# Altium footprint library PCB_supply unit.PcbLib: 19 footprints (part 1 of 2)
Each footprint in its own frame and in the unit in brackets; x right, y up, seen from the top. Pads: shape width x height; smd on the part's side, far side on the other; paste and mask are expansions set on the pad; w line width, h text height; cw(c..) or ccw(c..) is an arc to the next point about the centre after c.
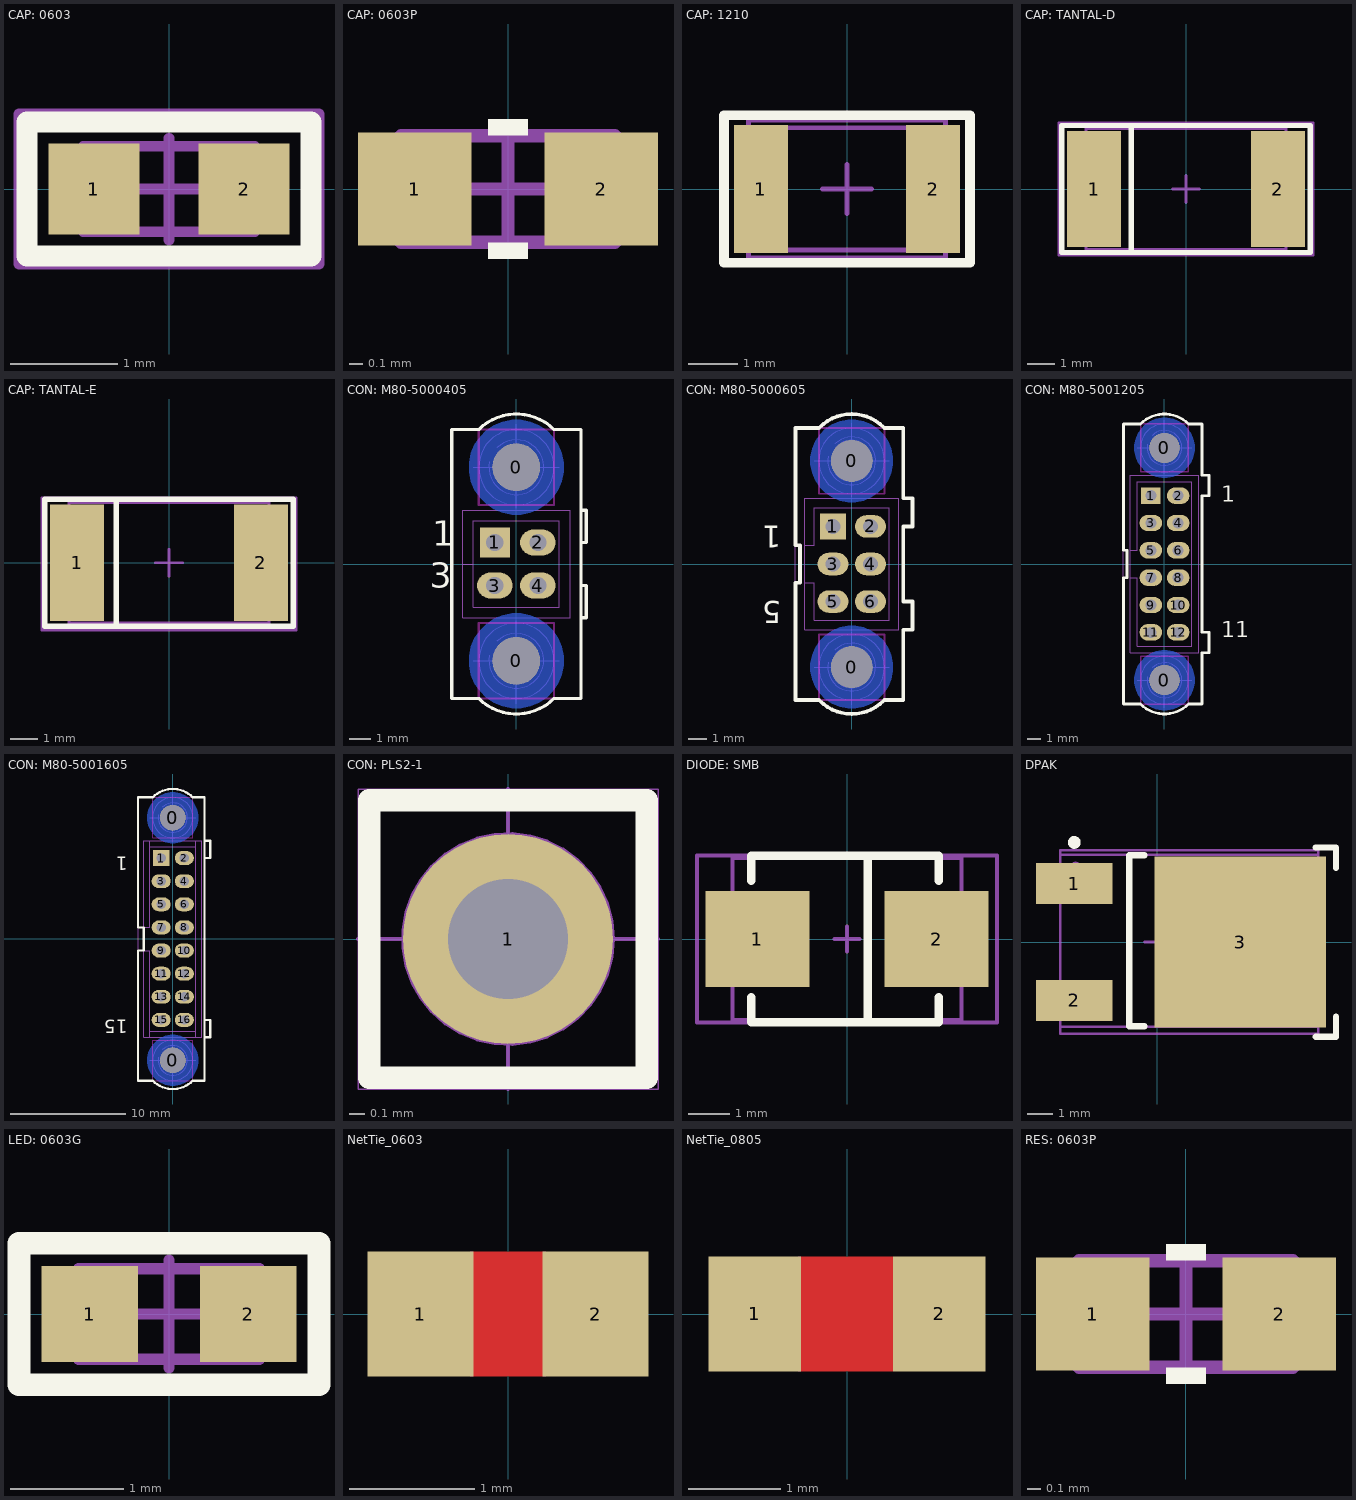
[diagram p0: the footprints below, top view; thin cyan lines are the x and y axes]

## CAP: 0603 [mm]
height 0.45
pads (2):
  rect 0.85x0.85 smd: 1(-0.7,0) 2(0.7,0)
Top Overlay:
  lines w0.2: -1.325,-0.625 1.325,-0.625 1.325,0.625 -1.325,0.625 -1.325,-0.625
Mechanical 1:
  lines w0.1: -0.8,-0.4 0.8,-0.4 0.8,0.4 -0.8,0.4 -0.8,-0.4
Mechanical 15:
  lines w0.1: -0.475,0 0.475,0 ; 0,-0.475 0,0.475 ; -1.4,-0.7 -1.4,0.7 1.4,0.7 1.4,-0.7 -1.4,-0.7
3D body "SW3dPS-0603 SMD Capacitor.STEP": height 0.3, standoff 0, extent -0.8,-0.4 0.8,0.4

## CAP: 0603P [mm] "small var"
height 0.45
pads (2):
  rect 0.85x0.85 smd: 1(-0.7,0) 2(0.7,0)
Top Overlay:
  rectangle: -0.15,0.4 0.15,0.525
  rectangle: -0.15,-0.525 0.15,-0.4
Mechanical 1:
  lines w0.1: -0.8,-0.4 -0.8,0.4 0.8,0.4 0.8,-0.4 -0.8,-0.4
Mechanical 15:
  lines w0.1: -0.475,0 0.475,0 ; 0,-0.475 0,0.475
3D body "SW3dPS-0603 SMD Capacitor.STEP": height 0.3, standoff 0, extent -0.8,-0.4 0.8,0.4

## CAP: 1210 [mm]
height 2.5
pads (2):
  rect 1.1x2.6 smd: 1(-1.75,0) 2(1.75,0)
Top Overlay:
  lines w0.2: -2.5,-1.5 2.5,-1.5 2.5,1.5 -2.5,1.5 -2.5,-1.5
Mechanical 1:
  lines w0.1: -2,-1.244 -2,1.245 2,1.245 2,-1.244 -2,-1.244
Mechanical 15:
  lines w0.1: -0.5,0 0.5,0 ; 0,-0.5 0,0.5 ; -2,-1.4 2,-1.4 2,1.4 -2,1.4 -2,-1.4
3D body "User Library-1210(3225M) Cap.STEP": height 1.7, standoff 0, extent -2,-1.244 2,1.245

## CAP: TANTAL-D [mm]
height 2.9
pads (2):
  rect 2x4.3 smd: 1(-3.4,0) 2(3.4,0)
Top Overlay:
  lines w0.2: -2.025,-2.35 -2.025,2.35 ; -4.6,-2.35 -4.6,2.35 4.6,2.35 4.6,-2.35 -4.6,-2.35
Mechanical 1:
  lines w0.1: -2.025,-2.225 -2.025,2.225 ; -3.7,-2.225 3.7,-2.225 3.7,2.225 -3.7,2.225 -3.7,-2.225
Mechanical 15:
  lines w0.1: -0.5,0 0.5,0 ; 0,-0.5 0,0.5 ; -4.7,-2.45 4.7,-2.45 4.7,2.45 -4.7,2.45 -4.7,-2.45
3D body "User Library-AVX_D_CASE.STEP": height 3.01, standoff 0, extent -3.7,-2.225 3.7,2.225

## CAP: TANTAL-E [mm]
height 2.9
pads (2):
  rect 2x4.3 smd: 1(-3.4,0) 2(3.4,0)
Top Overlay:
  lines w0.2: -1.95,-2.325 -1.95,2.325 ; -4.6,-2.35 4.6,-2.35 4.6,2.35 -4.6,2.35 -4.6,-2.35
Mechanical 1:
  lines w0.1: -1.95,-2.225 -1.95,2.225 ; -3.7,-2.225 3.7,-2.225 3.7,2.225 -3.7,2.225 -3.7,-2.225
Mechanical 15:
  lines w0.1: -0.5,0 0.5,0 ; 0,-0.5 0,0.5 ; -4.7,-2.5 -4.7,2.4 4.7,2.4 4.7,-2.5 -4.7,-2.5
3D body "User Library-AVX_E_CASE.STEP": height 4.2, standoff 0, extent -3.7,-2.225 3.7,2.225

## CON: M80-5000405 [mm] "4 pin; Harwin без винтов"
height 5.5
pads (6):
  round 2.2 hole 2.2 unplated: 0(0,-4.5) 0(0,4.5)
  rect 1.4x1.4 hole 0.8: 1(-1,1)
  oval 1.65x1.2 hole 0.8: 2(1,1) 3(-1,-1) 4(1,-1)
Top Layer keep-out:
  lines w0.1: -1.75,-6.25 -1.75,-2.75 1.75,-2.75 1.75,-6.25 -1.75,-6.25 ; -1.75,2.75 1.75,2.75 1.75,6.25 -1.75,6.25 -1.75,2.75
Bottom Layer:
  pour cut-out: 2.2,4.5 2.2,4.717 2.115,5.142 1.95,5.542 1.709,5.902 1.402,6.209 1.042,6.45 0.642,6.615 0.217,6.7 -0.217,6.7 -0.642,6.615 -1.042,6.45 -1.402,6.209 -1.709,5.902 -1.95,5.542 -2.115,5.142 -2.2,4.717 -2.2,4.5 -2.2,4.283 -2.115,3.858 -1.95,3.458 -1.709,3.098 -1.402,2.791 -1.042,2.55 -0.642,2.385 -0.217,2.3 0.217,2.3 0.642,2.385 1.042,2.55 1.402,2.791 1.709,3.098 1.95,3.458 2.115,3.858 2.2,4.283
  pour cut-out: 2.2,-4.5 2.2,-4.283 2.115,-3.858 1.95,-3.458 1.709,-3.098 1.402,-2.791 1.042,-2.55 0.642,-2.385 0.217,-2.3 -0.217,-2.3 -0.642,-2.385 -1.042,-2.55 -1.402,-2.791 -1.709,-3.098 -1.95,-3.458 -2.115,-3.858 -2.2,-4.283 -2.2,-4.5 -2.2,-4.717 -2.115,-5.142 -1.95,-5.542 -1.709,-5.902 -1.402,-6.209 -1.042,-6.45 -0.642,-6.615 -0.217,-6.7 0.217,-6.7 0.642,-6.615 1.042,-6.45 1.402,-6.209 1.709,-5.902 1.95,-5.542 2.115,-5.142 2.2,-4.717
Top Overlay:
  lines w0.15: 3,-5 3,3 ; 3,-1 3.25,-1 3.25,-2.5 3,-2.5 3,-6.25 1.75,-6.25 cw(c0,-4.5) -1.75,-6.25 -3,-6.25 -3,6.25 -1.75,6.25 cw(c0,4.5) 1.75,6.25 3,6.25 3,2.5 3.25,2.5 3.25,1 3,1
  text "1" at -3.9,0.45 h2
  text "3" at -4.027,-1.5 h2
Mechanical 1:
  circle w0.05: c-1,1 r0.25
  circle w0.05: c1,1 r0.25
  circle w0.05: c1,1 r0.25
  circle w0.05: c1,-1 r0.25
  circle w0.05: c1,-1 r0.25
  circle w0.05: c1,-1 r0.25
  circle w0.05: c-1,-1 r0.25
  circle w0.05: c-1,-1 r0.25
  circle w0.05: c-1,-1 r0.25
  circle w0.05: c-1,1 r0.25
  circle w0.05: c0,4.5 r1
  circle w0.05: c0,4.5 r1.75
  circle w0.05: c0,-4.5 r1
  circle w0.05: c0,-4.5 r1.75
  lines w0.05: -3,-3 -3,6.25 -1.75,6.25 cw(c0,4.5) 1.75,6.25 3,6.25 3,2.5 3.25,2.5 3.25,1 3,1 ; -3,-1 -3,-6.25 -1.75,-6.25 ccw(c0,-4.5) 1.75,-6.25 3,-6.25 3,-2.5 3.25,-2.5 ; -2,-4.5 2,-4.5 ; -2,4.5 2,4.5 ; -1.5,-4.5 1.5,-4.5 ; -1.25,-4.248 ccw(c0,-4.5) -0.901,-3.599 ; -1.25,4.752 ccw(c0,4.5) -0.901,5.401 ; 0,-6.5 0,-2.65 ; 0,2.6 0,6.5 ; 2,-1 2,-2 ; 2.5,-1 2.5,-2.5 ; 3,3 3,-3 3,-1 3.25,-1 ; -2.5,0 -2.5,-2.5 0,-2.5 2.5,-2.5 ; -2.5,0 -2.5,-2 -2.5,2.5 2.5,2.5 2.5,-2.5 ; -2.5,0 -2,0 ; -2.5,0 -2,0 ; -2,-2 -2,2 2,2 2,-2 ; -2,-2 -2,0 ; -2,-2 2,-2 ; -2,-2 -2,0 ; 3.25,-2.5 3.25,-1 ; 3.25,-2.5 3.25,-1
3D body "m80-5000405_asm.stp": height 5.6, standoff -3.25, extent -2.775,-7 3.275,7

## CON: M80-5000605 [mm] "HR500"
height 5.6
pads (8):
  round 2.2 hole 2.2 unplated mask+0.1: 0(0,-5.5) 0(0,5.5)
  rect 1.4x1.4 hole 0.8: 1(-1,2)
  oval 1.65x1.2 hole 0.8: 2(1,2) 3(-1,0) 4(1,0) 5(-1,-2) 6(1,-2)
Top Layer keep-out:
  lines w0.1: -1.75,-7.25 1.75,-7.25 1.75,-3.75 -1.75,-3.75 -1.75,-7.25 ; -1.75,3.75 1.75,3.75 1.75,7.25 -1.75,7.25 -1.75,3.75
Bottom Layer:
  pour cut-out: 2.2,5.5 2.2,5.717 2.115,6.142 1.95,6.542 1.709,6.902 1.402,7.209 1.042,7.45 0.642,7.615 0.217,7.7 -0.217,7.7 -0.642,7.615 -1.042,7.45 -1.402,7.209 -1.709,6.902 -1.95,6.542 -2.115,6.142 -2.2,5.717 -2.2,5.5 -2.2,5.283 -2.115,4.858 -1.95,4.458 -1.709,4.098 -1.402,3.791 -1.042,3.55 -0.642,3.385 -0.217,3.3 0.217,3.3 0.642,3.385 1.042,3.55 1.402,3.791 1.709,4.098 1.95,4.458 2.115,4.858 2.2,5.283
  pour cut-out: 2.2,-5.5 2.2,-5.283 2.115,-4.858 1.95,-4.458 1.709,-4.098 1.402,-3.791 1.042,-3.55 0.642,-3.385 0.217,-3.3 -0.217,-3.3 -0.642,-3.385 -1.042,-3.55 -1.402,-3.791 -1.709,-4.098 -1.95,-4.458 -2.115,-4.858 -2.2,-5.283 -2.2,-5.5 -2.2,-5.717 -2.115,-6.142 -1.95,-6.542 -1.709,-6.902 -1.402,-7.209 -1.042,-7.45 -0.642,-7.615 -0.217,-7.7 0.217,-7.7 0.642,-7.615 1.042,-7.45 1.402,-7.209 1.709,-6.902 1.95,-6.542 2.115,-6.142 2.2,-5.717
Top Overlay:
  lines w0.2: -3,-7.25 -1.75,-7.25 -1.707,-7.293 ccw(c0,-5.586) 0,-8 ccw(c0,-5.586) 1.707,-7.293 1.75,-7.25 2.75,-7.25 2.75,-3.5 3.25,-3.5 3.25,-2 2.75,-2 2.75,2 3.25,2 3.25,3.5 2.75,3.5 2.75,7.25 1.75,7.25 1.707,7.293 ccw(c0,5.586) 0,8 ccw(c0,5.586) -1.707,7.293 -1.75,7.25 -3,7.25 -3,1 -2.75,1 -2.75,-1 -3,-1 -3,-7.25
  text "1" at -3.75,2.433 h2
  text "5" at -3.75,-1.6 h2
Mechanical 1:
  circle w0.05: c0,5.5 r1.75
  circle w0.05: c0,-5.5 r1.75
  circle w0.05: c0,5.5 r1.1
  circle w0.05: c0,-5.5 r1.1
  circle w0.05: c-1,0 r0.25
  circle w0.05: c-1,-2 r0.25
  circle w0.05: c1,-2 r0.25
  circle w0.05: c1,0 r0.25
  circle w0.05: c1,2 r0.25
  circle w0.05: c-1,2 r0.25
  lines w0.05: -2.5,-1 -2,-1 -2,-3 2,-3 2,3 -2,3 -2,1 -2.5,1 ; -2,-5.5 2,-5.5 ; -2,5.5 2,5.5 ; -1.25,-5.248 ccw(c0,-5.5) -0.901,-4.599 ; -1.25,5.752 ccw(c0,5.5) -0.901,6.401 ; 0,-7.5 0,-3.65 ; 0,3.6 0,7.5 ; -3,-7.25 -3,7.25 -1.75,7.25 cw(c0,5.5) 1.75,7.25 2.75,7.25 2.75,3.5 3.25,3.5 3.25,2 2.75,2 2.75,-2 3.25,-2 3.25,-3.5 2.75,-3.5 2.75,-7.25 1.75,-7.25 cw(c0,-5.5) -1.75,-7.25 -3,-7.25 ; -2.5,-3.5 2.5,-3.5 2.5,3.5 -2.5,3.5 -2.5,-3.5
3D body "Вилка M80-5000642.stp": height 5.6, standoff -3.25, extent -2.775,-8 3.275,8

## CON: M80-5001205 [mm] "без винтов"
height 5.6
pads (14):
  round 2.2 hole 2.2 unplated mask+0.1: 0(0,-8.5) 0(0,8.5)
  rect 1.4x1.2 hole 0.8: 1(-1,5)
  oval 1.65x1.2 hole 0.8: 2(1,5) 3(-1,3) 4(1,3) 5(-1,1) 6(1,1) 7(-1,-1) 8(1,-1) 9(-1,-3) 10(1,-3) 11(-1,-5) 12(1,-5)
Top Layer keep-out:
  lines w0.1: -1.75,-10.25 -1.75,-6.75 1.75,-6.75 1.75,-10.25 -1.75,-10.25 ; -1.75,6.75 -1.75,10.25 1.75,10.25 1.75,6.75 -1.75,6.75
Bottom Layer:
  pour cut-out: 2.2,-8.5 2.2,-8.283 2.115,-7.858 1.95,-7.458 1.709,-7.098 1.402,-6.791 1.042,-6.55 0.642,-6.385 0.217,-6.3 -0.217,-6.3 -0.642,-6.385 -1.042,-6.55 -1.402,-6.791 -1.709,-7.098 -1.95,-7.458 -2.115,-7.858 -2.2,-8.283 -2.2,-8.5 -2.2,-8.717 -2.115,-9.142 -1.95,-9.542 -1.709,-9.902 -1.402,-10.209 -1.042,-10.45 -0.642,-10.615 -0.217,-10.7 0.217,-10.7 0.642,-10.615 1.042,-10.45 1.402,-10.209 1.709,-9.902 1.95,-9.542 2.115,-9.142 2.2,-8.717
  pour cut-out: 2.2,8.5 2.2,8.717 2.115,9.142 1.95,9.542 1.709,9.902 1.402,10.209 1.042,10.45 0.642,10.615 0.217,10.7 -0.217,10.7 -0.642,10.615 -1.042,10.45 -1.402,10.209 -1.709,9.902 -1.95,9.542 -2.115,9.142 -2.2,8.717 -2.2,8.5 -2.2,8.283 -2.115,7.858 -1.95,7.458 -1.709,7.098 -1.402,6.791 -1.042,6.55 -0.642,6.385 -0.217,6.3 0.217,6.3 0.642,6.385 1.042,6.55 1.402,6.791 1.709,7.098 1.95,7.458 2.115,7.858 2.2,8.283
Top Overlay:
  lines w0.2: 2.75,10.25 1.75,10.25 ccw(c0,8.5) -1.75,10.25 -3,10.25 -3,1 -2.75,1 -2.75,-1 -3,-1 -3,-10.25 -1.75,-10.25 ccw(c0,-8.5) 1.75,-10.25 2.75,-10.25 2.75,-6.5 3.25,-6.5 3.25,-5 2.75,-5 2.75,5 3.25,5 3.25,6.5 2.75,6.5 2.75,10.25 ; 2.75,10.25 2.75,10.25
  text "1" at 4.15,4.15 h2
  text "11" at 4.15,-5.75 h2
Mechanical 1:
  circle w0.05: c0,8.5 r1.75
  circle w0.05: c0,-8.5 r1.75
  circle w0.05: c0,8.5 r1
  circle w0.05: c0,-8.5 r1
  circle w0.05: c-1,3 r0.25
  circle w0.05: c-1,1 r0.25
  circle w0.05: c-1,-1 r0.25
  circle w0.05: c-1,-3 r0.25
  circle w0.05: c-1,-5 r0.25
  circle w0.05: c1,-5 r0.25
  circle w0.05: c1,-3 r0.25
  circle w0.05: c1,-1 r0.25
  circle w0.05: c1,1 r0.25
  circle w0.05: c1,3 r0.25
  circle w0.05: c1,5 r0.25
  circle w0.05: c-1,5 r0.25
  lines w0.05: -2.5,-1 -2,-1 -2,-6 2,-6 2,6 -2,6 -2,1 -2.5,1 ; -2,-8.5 2,-8.5 ; -2,8.5 2,8.5 ; -1.25,-8.248 ccw(c0,-8.5) -0.901,-7.599 ; -1.25,8.752 ccw(c0,8.5) -0.901,9.401 ; 0,-10.5 0,-6.65 ; 0,6.6 0,10.5 ; -3,-10.25 -3,10.25 -1.75,10.25 cw(c0,8.5) 1.75,10.25 2.75,10.25 2.75,6.5 3.25,6.5 3.25,5 2.75,5 2.75,-5 3.25,-5 3.25,-6.5 2.75,-6.5 2.75,-10.25 1.75,-10.25 cw(c0,-8.5) -1.75,-10.25 -3,-10.25 ; -2.5,-6.5 2.5,-6.5 2.5,6.5 -2.5,6.5 -2.5,-6.5
3D body "Вилка M80-5001242.stp": height 5.6, standoff -3.25, extent -2.775,-11 3.275,11

## CON: M80-5001605 [mm] "16pin Harwin"
height 5.6
pads (18):
  round 2.2 hole 2.2 unplated mask+0.1: 0(0,-10.5) 0(0,10.5)
  rect 1.4x1.4 hole 0.8: 1(-1,7)
  oval 1.65x1.2 hole 0.8: 2(1,7) 3(-1,5) 4(1,5) 5(-1,3) 6(1,3) 7(-1,1) 8(1,1) 9(-1,-1) 10(1,-1) 11(-1,-3) 12(1,-3) 13(-1,-5) 14(1,-5) 15(-1,-7) 16(1,-7)
Top Layer keep-out:
  lines w0.1: -1.75,-12.25 -1.75,-8.75 1.75,-8.75 1.75,-12.25 -1.75,-12.25 ; -1.75,8.75 -1.75,12.25 1.75,12.25 1.75,8.75 -1.75,8.75
Bottom Layer:
  pour cut-out: 2.2,10.5 2.2,10.717 2.115,11.142 1.95,11.542 1.709,11.902 1.402,12.209 1.042,12.45 0.642,12.615 0.217,12.7 -0.217,12.7 -0.642,12.615 -1.042,12.45 -1.402,12.209 -1.709,11.902 -1.95,11.542 -2.115,11.142 -2.2,10.717 -2.2,10.5 -2.2,10.283 -2.115,9.858 -1.95,9.458 -1.709,9.098 -1.402,8.791 -1.042,8.55 -0.642,8.385 -0.217,8.3 0.217,8.3 0.642,8.385 1.042,8.55 1.402,8.791 1.709,9.098 1.95,9.458 2.115,9.858 2.2,10.283
  pour cut-out: 2.2,-10.5 2.2,-10.283 2.115,-9.858 1.95,-9.458 1.709,-9.098 1.402,-8.791 1.042,-8.55 0.642,-8.385 0.217,-8.3 -0.217,-8.3 -0.642,-8.385 -1.042,-8.55 -1.402,-8.791 -1.709,-9.098 -1.95,-9.458 -2.115,-9.858 -2.2,-10.283 -2.2,-10.5 -2.2,-10.717 -2.115,-11.142 -1.95,-11.542 -1.709,-11.902 -1.402,-12.209 -1.042,-12.45 -0.642,-12.615 -0.217,-12.7 0.217,-12.7 0.642,-12.615 1.042,-12.45 1.402,-12.209 1.709,-11.902 1.95,-11.542 2.115,-11.142 2.2,-10.717
Top Overlay:
  lines w0.2: 2.75,-9 2.75,9 ; 2.75,-7 3.25,-7 3.25,-8.5 2.75,-8.5 2.75,-12.25 1.75,-12.25 cw(c0,-10.5) -1.75,-12.25 -3,-12.25 -3,-1 -2.5,-1 -2.5,1 -3,1 -3,12.25 -1.75,12.25 cw(c0,10.5) 1.75,12.25 2.75,12.25 2.75,8.5 3.25,8.5 3.25,7 2.75,7
  text "15" at -3.9,-6.6 h2
  text "1" at -3.9,7.5 h2
Mechanical 1:
  circle w0.05: c1,7 r0.25
  circle w0.05: c1,5 r0.25
  circle w0.05: c1,3 r0.25
  circle w0.05: c1,1 r0.25
  circle w0.05: c1,-1 r0.25
  circle w0.05: c1,-3 r0.25
  circle w0.05: c1,-5 r0.25
  circle w0.05: c-1,-3 r0.25
  circle w0.05: c-1,-1 r0.25
  circle w0.05: c-1,1 r0.25
  circle w0.05: c-1,3 r0.25
  circle w0.05: c-1,5 r0.25
  circle w0.05: c-1,7 r0.25
  circle w0.05: c-1,-7 r0.25
  circle w0.05: c1,-7 r0.25
  circle w0.05: c0,-10.5 r1
  circle w0.05: c0,10.5 r1
  circle w0.05: c0,-10.5 r1.75
  circle w0.05: c0,10.5 r1.75
  circle w0.05: c-1,-5 r0.25
  lines w0.05: -2.5,-1 -2,-1 -2,-8.5 ; -2.5,1 -2,1 -2,8.5 ; -2,-10.5 2,-10.5 ; -2,-8 2,-8 ; -2,8 2,8 ; -2,10.5 2,10.5 ; -1.5,-10.5 1.5,-10.5 ; -1.25,-10.248 ccw(c0,-10.5) -0.901,-9.599 ; -1.25,10.752 ccw(c0,10.5) -0.901,11.401 ; 0,-12.5 0,-8.65 ; 0,8.6 0,12.5 ; 2,-8.5 2,8.5 ; 2.75,-9 2.75,9 ; 2.75,-7 3.25,-7 3.25,-8.5 2.75,-8.5 2.75,-12.25 1.75,-12.25 cw(c0,-10.5) -1.75,-12.25 -3,-12.25 -3,12.25 -1.75,12.25 cw(c0,10.5) 1.75,12.25 2.75,12.25 2.75,8.5 3.25,8.5 3.25,7 2.75,7 ; -2.5,-8.5 -2.5,8.5 2.5,8.5 2.5,-8.5 -2.5,-8.5
3D body "m80-5001605_asm.stp": height 5.6, standoff -3.25, extent -2.775,-13 3.275,13

## CON: PLS2-1 [mm] "1 Position,pitch 2mm"
height 7.5
pads (1):
  round 1.4 hole 0.8: 1(0,0)
Top Overlay:
  lines w0.15: -0.925,-0.925 -0.925,0.925 0.925,0.925 0.925,-0.925 -0.925,-0.925
Mechanical 1:
  circle w0.025: c0,0 r0.7
  lines w0.01: -1,-1 -1,1 1,1 1,-1 -1,-1
  lines w0.025: -1,0 1,0 ; 0,-1 0,1
3D body "PinHeader_1x01_P2.00mm_Vertical.step": height 6, standoff -2.8, extent -1,-1 1,1

## DIODE: SMB [mm]
height 2
pads (2):
  rect 2.5x2.3 smd: 1(-2.15,0) 2(2.15,0)
Top Overlay:
  lines w0.2: -2.3,-1.4 -2.3,-2 2.2,-2 2.2,-1.4 ; -2.3,1.4 -2.3,2 2.2,2 2.2,1.4 ; 0.5,-2 0.5,2
Mechanical 1:
  lines w0.1: 0.5,-1.95 0.5,1.95 ; -2.75,-1.95 2.75,-1.95 2.75,1.95 -2.75,1.95 -2.75,-1.95
Mechanical 15:
  lines w0.1: -0.3,0 0.3,0 ; 0,-0.3 0,0.3 ; -3.6,-2 -3.6,2 3.6,2 3.6,-2 -3.6,-2
3D body "User Library-DIOM5539X24.STEP": height 2.45, standoff 0.03, extent -2.75,-1.95 2.75,1.95

## DPAK [mm]
height 2.4
pads (4):
  rect 3x1.6 smd: 1(-3.25,2.29) 2(-3.25,-2.29)
  rect 6.7x6.7 smd: 3(3.25,0)
  round 0.5 on Mech1: ""(-3.2,2.9)
Top Overlay:
  circle w0.25: c-3.25,3.9 r0.125
  lines w0.25: -0.5,-3.3 -1.1,-3.3 -1.1,3.4 -0.5,3.4 ; 6.2,-3.717 7,-3.717 7,-2.917 ; 6.2,3.7 7,3.7 7,2.9
Mechanical 1:
  lines w0.1: -3.798,-3.317 6.302,-3.317 6.302,3.417 ; -3.798,-3.317 -3.798,-3.317 ; -3.798,-3.317 -3.798,3.417 6.302,3.417 ; 6.302,3.417 6.302,3.417
Mechanical 15:
  lines w0.1: -0.5,0 0.5,0 ; 0,-0.5 0,0.5 ; -3.8,-3.6 -3.8,3.6 6.3,3.6 6.3,-3.6 -3.8,-3.6
3D body "User Library-DPAK_TO-252AA.STEP": height 2.37, standoff -0.03, extent -3.798,-3.317 6.302,3.417

## LED: 0603G [mm]
height 0.45
pads (2):
  rect 0.85x0.85 smd: 1(-0.7,0) 2(0.7,0)
Top Overlay:
  lines w0.2: -1.325,-0.625 -1.325,0.625 1.325,0.625 1.325,-0.625 -1.325,-0.625
Mechanical 1:
  lines w0.1: -0.8,-0.4 -0.8,0.4 0.8,0.4 0.8,-0.4 -0.8,-0.4
Mechanical 15:
  lines w0.1: -0.475,0 0.475,0 ; 0,-0.475 0,0.475 ; -1.325,-0.625 -1.325,0.6 1.325,0.6 1.325,-0.625 -1.325,-0.625
3D body "User Library-LED_0603_G.STEP": height 0.6, standoff 0, extent -0.8,-0.4 0.8,0.4

## NetTie_0603 [mm]
pads (2):
  rect 0.85x1 smd: 1(-0.7,0) 2(0.7,0)
Top Layer:
  rectangle: -0.3,-0.5 0.3,0.5

## NetTie_0805 [mm]
pads (2):
  rect 1x1.25 smd: 1(-1,0) 2(1,0)
Top Layer:
  rectangle: -0.525,-0.625 0.5,0.625

## RES: 0603P [mm] "small footprint"
height 0.45
pads (2):
  rect 0.85x0.85 smd: 1(-0.7,0) 2(0.7,0)
Top Overlay:
  rectangle: -0.15,0.4 0.15,0.525
  rectangle: -0.15,-0.525 0.15,-0.4
Mechanical 1:
  lines w0.1: -0.8,-0.4 0.8,-0.4 0.8,0.4 -0.8,0.4 -0.8,-0.4
Mechanical 15:
  lines w0.1: -0.475,0 0.475,0 ; 0,-0.475 0,0.475
3D body "chip_0603_r.STEP": height 0.44, standoff -0.02, extent -0.8,-0.4 0.8,0.4